# Altium footprint library WE WR_COM 632712000011.PcbLib: 1 footprints
Each footprint in its own frame and in the unit in brackets; x right, y up, seen from the top. Pads: shape width x height; smd on the part's side, far side on the other; paste and mask are expansions set on the pad; w line width, h text height; cw(c..) or ccw(c..) is an arc to the next point about the centre after c.
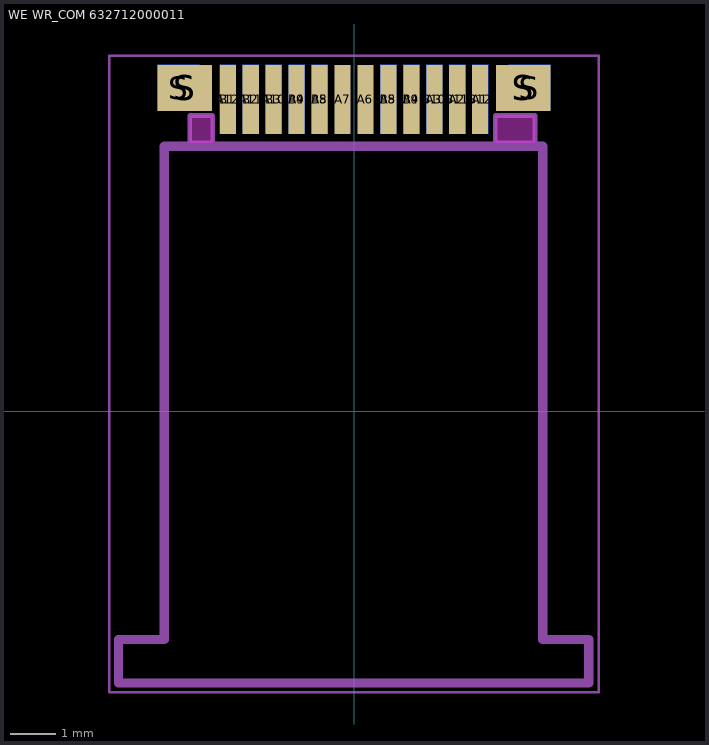
[diagram p0: the footprint, top view; thin cyan lines are the x and y axes]

## WE WR_COM 632712000011 [mm] "USB 3.1 Type C Plug Horizontal SMT"
height 2.4
pads (26):
  rect 0.35x1.5 smd: A1(2.75,6.8) A2(2.25,6.8) A3(1.75,6.8) A4(1.25,6.8) A5(0.75,6.8) A6(0.25,6.8) A7(-0.25,6.8) A8(-0.75,6.8) A9(-1.25,6.8) A10(-1.75,6.8) A11(-2.25,6.8) A12(-2.75,6.8)
  rect 0.35x1.5 smd far side: B1(-2.75,6.8) B2(-2.25,6.8) B3(-1.75,6.8) B4(-1.25,6.8) B5(-0.75,6.8) B8(0.75,6.8) B9(1.25,6.8) B10(1.75,6.8) B11(2.25,6.8) B12(2.75,6.8)
  rect 0.9x1 smd far side: S(-3.825,7.05) S(3.825,7.05)
  rect 1.18x1 smd: S(-3.69,7.05) S(3.69,7.05)
Keep-Out Layer:
  board cut-out: 3.075,5.85 3.075,6.45 3.945,6.45 3.945,5.85
  board cut-out: -3.58,5.85 -3.58,6.45 -3.08,6.45 -3.08,5.85
Top Assembly:
  lines w0.2: -5.135,-5.92 -5.135,-4.97 -4.135,-4.97 -4.135,5.78 4.115,5.78 4.115,-4.97 5.115,-4.97 5.115,-5.92 -5.135,-5.92
Top Courtyard:
  lines w0.05: -5.335,-6.12 5.335,-6.12 5.335,7.75 -5.335,7.75 -5.335,-6.12
Top Designator:
  text ".Designator" at -7.498,-0.5 h1.5
Bottom Designator:
  lines w0.1: -3.58,5.85 -3.58,6.45 -3.08,6.45 -3.08,5.85 -3.58,5.85 ; 3.075,5.85 3.075,6.45 3.945,6.45 3.945,5.85 3.075,5.85
3D body "632712000011.stp": height 1.74, standoff -2.46, extent -5.135,-5.92 5.115,7.48